# Altium footprint library SnapEDApcb.PcbLib: 1 footprints
Each footprint in its own frame and in the unit in brackets; x right, y up, seen from the top. Pads: shape width x height; smd on the part's side, far side on the other; paste and mask are expansions set on the pad; w line width, h text height; cw(c..) or ccw(c..) is an arc to the next point about the centre after c.
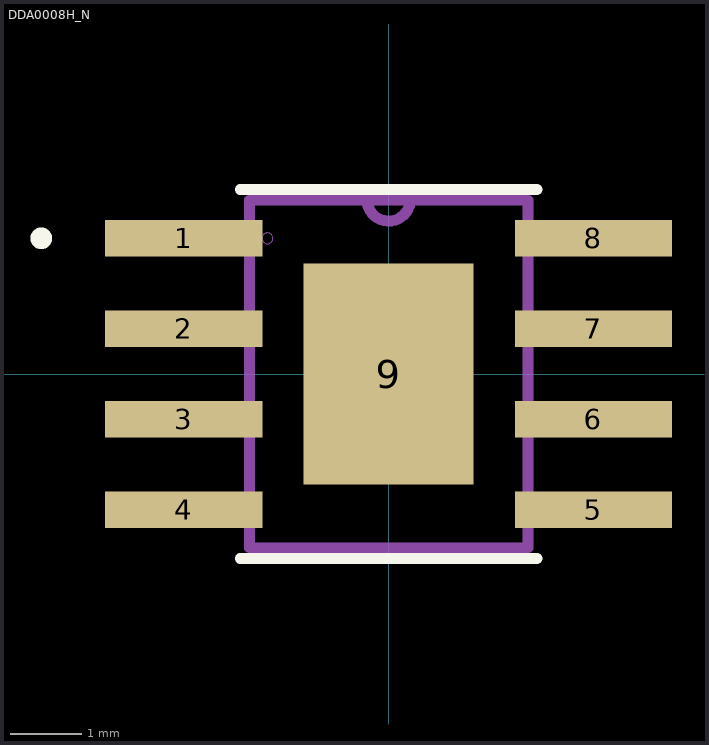
[diagram p0: the footprint, top view; thin cyan lines are the x and y axes]

## DDA0008H_N [mil]
pads (9):
  rect 87x20 smd: 1(-113.19,75) 2(-113.19,25) 3(-113.19,-25) 4(-113.19,-75) 5(113.19,-75) 6(113.19,-25) 7(113.19,25) 8(113.19,75)
  rect 94x122 smd paste-118.11: 9(0,0)
Top Overlay:
  lines w6: -82,-102 82,-102 ; -82,102 82,102 ; -195,75 ccw(c-192,75) -189,75 ccw(c-192,75) -195,75
Top Paste:
  region: -34.94,40.5 -40.5,34.94 -44.05,34.94 -44.05,58.05 -34.94,58.05
  region: -34.94,21.5 -34.94,9.5 -40.5,3.94 -44.05,3.94 -44.05,27.06 -40.5,27.06
  region: -34.94,-9.5 -34.94,-21.5 -40.5,-27.06 -44.05,-27.06 -44.05,-3.94 -40.5,-3.94
  region: -34.94,-40.5 -34.94,-58.05 -44.05,-58.05 -44.05,-34.94 -40.5,-34.94
  region: -3.94,40.5 -9.5,34.94 -21.5,34.94 -27.06,40.5 -27.06,58.05 -3.94,58.05
  region: -3.94,21.5 -3.94,9.5 -9.5,3.94 -21.5,3.94 -27.06,9.5 -27.06,21.5 -21.5,27.06 -9.5,27.06
  region: -3.94,-9.5 -3.94,-21.5 -9.5,-27.06 -21.5,-27.06 -27.06,-21.5 -27.06,-9.5 -21.5,-3.94 -9.5,-3.94
  region: -3.94,-40.5 -3.94,-58.05 -27.06,-58.05 -27.06,-40.5 -21.5,-34.94 -9.5,-34.94
  region: 27.06,40.5 21.5,34.94 9.5,34.94 3.94,40.5 3.94,58.05 27.06,58.05
  region: 27.06,21.5 27.06,9.5 21.5,3.94 9.5,3.94 3.94,9.5 3.94,21.5 9.5,27.06 21.5,27.06
  region: 27.06,-9.5 27.06,-21.5 21.5,-27.06 9.5,-27.06 3.94,-21.5 3.94,-9.5 9.5,-3.94 21.5,-3.94
  region: 27.06,-40.5 27.06,-58.05 3.94,-58.05 3.94,-40.5 9.5,-34.94 21.5,-34.94
  region: 44.05,34.94 40.5,34.94 34.94,40.5 34.94,58.05 44.05,58.05
  region: 44.05,3.94 40.5,3.94 34.94,9.5 34.94,21.5 40.5,27.06 44.05,27.06
  region: 44.05,-27.06 40.5,-27.06 34.94,-21.5 34.94,-9.5 40.5,-3.94 44.05,-3.94
  region: 44.05,-58.05 34.94,-58.05 34.94,-40.5 40.5,-34.94 44.05,-34.94
Top Solder:
  region: 49.5,38.87 -49.5,38.87 -49.5,63.5 49.5,63.5
  region: 49.5,7.87 -49.5,7.87 -49.5,23.13 49.5,23.13
  region: 49.5,-23.13 -49.5,-23.13 -49.5,-7.87 49.5,-7.87
  region: 49.5,-63.5 -49.5,-63.5 -49.5,-38.87 49.5,-38.87
  region: -38.87,-63.5 -49.5,-63.5 -49.5,63.5 -38.87,63.5
  region: -7.87,-63.5 -23.13,-63.5 -23.13,63.5 -7.87,63.5
  region: 23.13,-63.5 7.87,-63.5 7.87,63.5 23.13,63.5
  region: 49.5,-63.5 38.87,-63.5 38.87,63.5 49.5,63.5
Mechanical 13:
  lines w0: -70,75 ccw(c-67,75) -64,75 ccw(c-67,75) -70,75
  lines w6: -12,96.08 ccw(c0,96.5) 12,96.92 ; -77,-96 77,-96 77,96 -12,96 -77,96 -77,-96